# Altium footprint library Mosfets TH.PcbLib: 8 footprints
Each footprint in its own frame and in the unit in brackets; x right, y up, seen from the top. Pads: shape width x height; smd on the part's side, far side on the other; paste and mask are expansions set on the pad; w line width, h text height; cw(c..) or ccw(c..) is an arc to the next point about the centre after c.
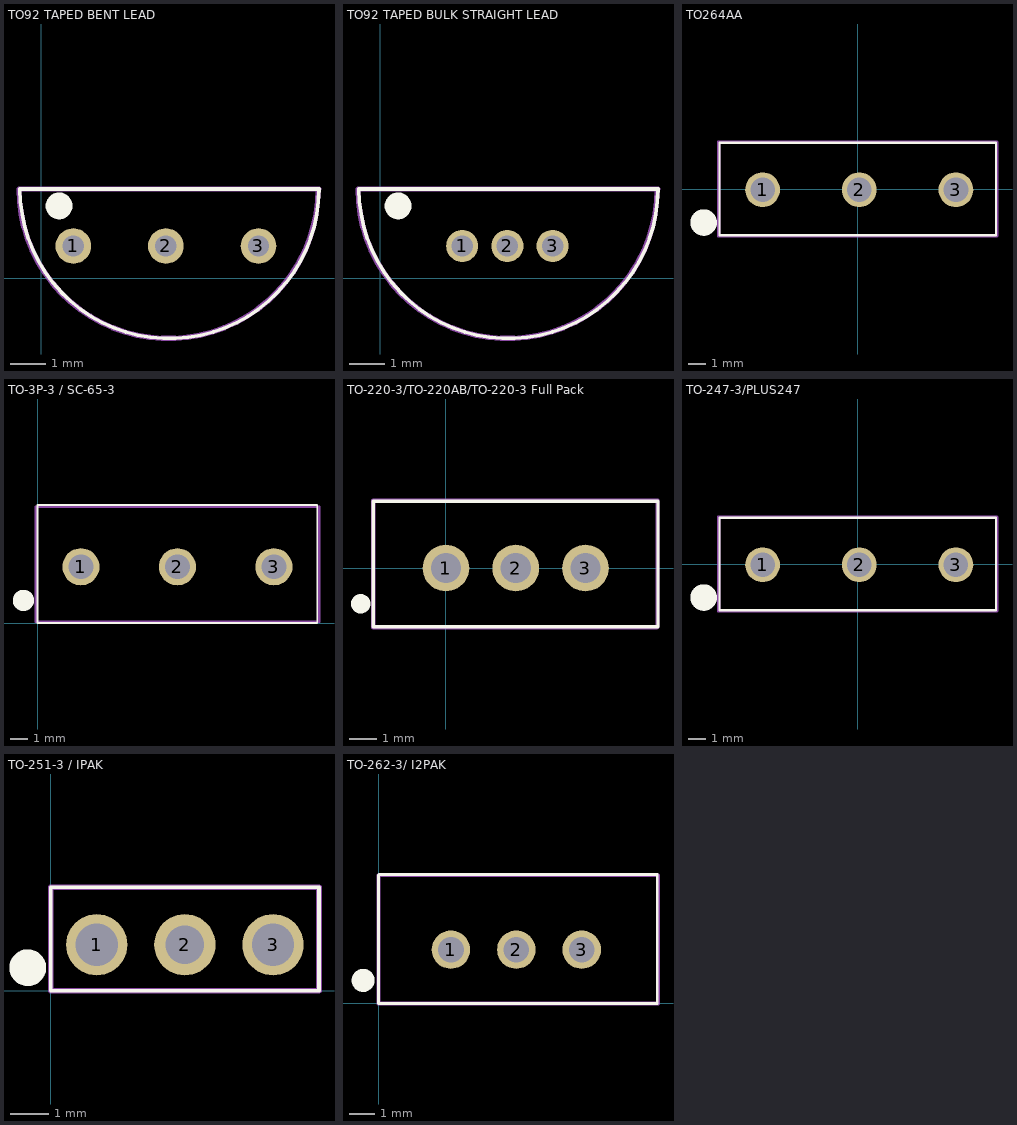
[diagram p0: the footprints below, top view; thin cyan lines are the x and y axes]

## TO92 TAPED BENT LEAD [mm]
pads (3):
  round 1 hole 0.6: 1(0.9,0.9) 2(3.5,0.9) 3(6.1,0.9)
Top Overlay:
  circle w0.4: c0.5,2.025 r0.175
  lines w0.1: -0.6,2.5 ccw(c3.6,2.5) 7.8,2.5 -0.6,2.5
Mechanical 15:
  lines w0.15: -0.625,2.5 ccw(c3.575,2.5) 7.775,2.5 ; -0.6,2.5 7.8,2.5
  text "'.Designator'" at 1.3,-0.6 h1

## TO92 TAPED BULK STRAIGHT LEAD [mm]
pads (3):
  round 0.9 hole 0.6: 1(2.3,0.9) 2(3.57,0.9) 3(4.84,0.9)
Top Overlay:
  circle w0.4: c0.5,2.025 r0.175
  lines w0.1: -0.6,2.5 ccw(c3.6,2.5) 7.8,2.5 -0.6,2.5
Mechanical 15:
  lines w0.15: -0.625,2.5 ccw(c3.575,2.5) 7.775,2.5 ; -0.6,2.5 7.8,2.5
  text "'.Designator'" at 1.3,-0.6 h1

## TO264AA [mm]
pads (3):
  round 2 hole 1.42: 1(-5.46,-0.045) 2(0.09,-0.045) 3(5.64,-0.045)
Top Overlay:
  circle w0.762: c-8.847,-1.925 r0.381
  lines w0.127: -7.935,-2.655 -7.935,2.655 7.935,2.655 7.935,-2.655 -7.935,-2.655
Mechanical 1:
  lines w0.127: -7.935,-2.655 7.935,-2.655 7.935,2.655 -7.935,2.655 -7.935,-2.655
Mechanical 15:
  lines w0.15: -8,-2.7 8,-2.7 8,2.7 -8,2.7 -8,-2.7
  text "'.Designator'" at -4.9,1.2 h2

## TO-3P-3 / SC-65-3 [mm]
pads (3):
  round 2.1 hole 1.4: 1(2.45,3.2) 2(7.9,3.2) 3(13.35,3.2)
Top Overlay:
  lines w0.1: 0,0.025 15.8,0.025 15.8,6.692 0,6.692 0,0.025
  lines w0.7: -0.553,1.264 cw(c-0.8,1.3) -0.551,1.319
Mechanical 15:
  lines w0.15: -0.1,0.1 15.9,0.1 15.9,6.6 -0.1,6.6 -0.1,0.1
  text "'.Designator'" at 2.2,5 h2

## TO-220-3/TO-220AB/TO-220-3 Full Pack [mm]
pads (3):
  round 1.7 hole 1.1: 1(0,0) 2(2.54,0) 3(5.08,0)
Top Overlay:
  circle w0.5: c-3.1,-1.3 r0.1
  lines w0.127: -2.64,-2.14 -2.64,2.44 7.72,2.44 7.72,-2.14 -2.64,-2.14
Mechanical 1:
  lines w0.1: -2.64,-2.14 7.72,-2.14 7.72,2.44 -2.64,2.44 -2.64,-2.14
Mechanical 15:
  lines w0.15: -2.645,-2.16 7.675,-2.16 7.705,-2.13 7.705,2.455 -2.645,2.455 -2.645,-2.16
  text "'.Designator'" at -2.3,1 h2

## TO-247-3/PLUS247 [mm]
pads (3):
  round 2 hole 1.4: 1(-5.46,-0.045) 2(0.09,-0.045) 3(5.64,-0.045)
Top Overlay:
  circle w0.762: c-8.847,-1.925 r0.381
  lines w0.127: -7.935,-2.655 7.935,-2.655 7.935,2.655 -7.935,2.655 -7.935,-2.655
Mechanical 1:
  lines w0.127: -7.935,-2.655 -7.935,2.655 7.935,2.655 7.935,-2.655 -7.935,-2.655
Mechanical 15:
  lines w0.15: -8,-2.7 -8,2.7 8,2.7 8,-2.7 -8,-2.7
  text "'.Designator'" at -4.9,1.2 h2

## TO-251-3 / IPAK [mm]
pads (3):
  round 1.6 hole 1.1: 1(1.2,1.2) 3(5.8,1.2)
  round 1.6 hole 1: 2(3.5,1.2)
Top Overlay:
  circle w0.5: c-0.6,0.6 r0.23
  lines w0.1: 0,0 0,2.7 7,2.7 7,0 0,0
Mechanical 15:
  lines w0.15: 0,0 0,2.7 7,2.7 7,0 0,0
  text "'.Designator'" at 1,2 h1

## TO-262-3/ I2PAK [mm]
pads (3):
  round 1.5 hole 1: 1(2.825,2.1) 2(5.375,2.1) 3(7.925,2.1)
Top Overlay:
  circle w0.5: c-0.6,0.9 r0.2
  lines w0.1: 0,0 10.87,0 10.87,5.03 0.03,5.03 0,5 0,0
Mechanical 15:
  lines w0.15: 0,0 10.9,0 10.9,5 0,5 0,0
  text "'.Designator'" at 0.7,3.5 h2